# EAGLE library part MCM6705A (library memory-sram)
MEMORY
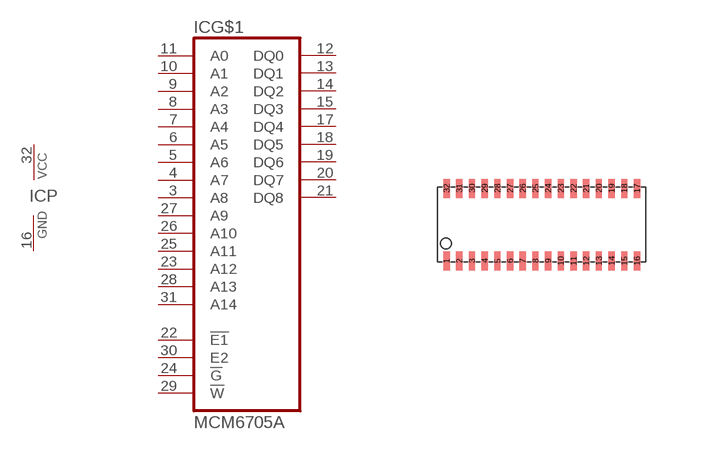
[diagram p22: symbol with the pads of SOJ32/3; footprint SOJ32/3]

Designator prefix IC; gates G$1=CM6705A P=PWRN

## MCM6705A  [SOJ32/3]
3  G$1:A8  in
4  G$1:A7  in
5  G$1:A6  in
6  G$1:A5  in
7  G$1:A4  in
8  G$1:A3  in
9  G$1:A2  in
10  G$1:A1  in
11  G$1:A0  in
12  G$1:DQ0
13  G$1:DQ1
14  G$1:DQ2
15  G$1:DQ3
16  P:GND  pwr
17  G$1:DQ4
18  G$1:DQ5
19  G$1:DQ6
20  G$1:DQ7
21  G$1:DQ8
22  G$1:!E1  in
23  G$1:A12  in
24  G$1:!G  in
25  G$1:A11  in
26  G$1:A10  in
27  G$1:A9  in
28  G$1:A13  in
29  G$1:!W  in
30  G$1:E2  in
31  G$1:A14  in
32  P:VCC  pwr

## Footprint SOJ32/3 (pad centres in mm)
Small Outline J-Bend
smd 0.159 x 0.476: 1 -2.381,-0.908; 2 -2.064,-0.908; 3 -1.746,-0.908; 4 -1.429,-0.908; 5 -1.111,-0.908; 6 -0.794,-0.908; 7 -0.476,-0.908; 8 -0.159,-0.908; 9 0.159,-0.908; 10 0.476,-0.908; 11 0.794,-0.908; 12 1.111,-0.908; 13 1.429,-0.908; 14 1.746,-0.908; 15 2.064,-0.908; 16 2.381,-0.908; 17 2.381,0.908; 18 2.064,0.908; 19 1.746,0.908; 20 1.429,0.908; 21 1.111,0.908; 22 0.794,0.908; 23 0.476,0.908; 24 0.159,0.908; 25 -0.159,0.908; 26 -0.476,0.908; 27 -0.794,0.908; 28 -1.111,0.908; 29 -1.429,0.908; 30 -1.746,0.908; 31 -2.064,0.908; 32 -2.381,0.908